# EAGLE library part SLIMSTACK-8 (library mullac)
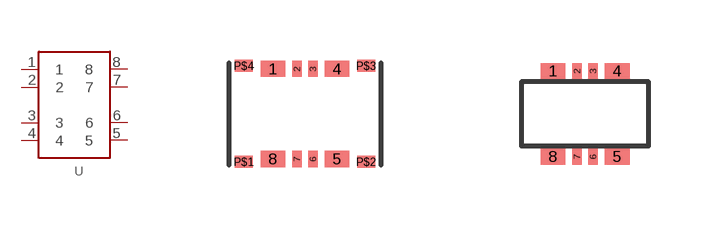
[diagram p9: symbol with the pads of MOLEX_SLIMSTACK_22_RCPT; footprints MOLEX_SLIMSTACK_22_RCPT, MOLEX_SLIMSTACK_22_PLUG]

Designator prefix -

## SLIMSTACK-8RECEPTICALE  [MOLEX_SLIMSTACK_22_RCPT]
1  1
2  2
3  3
4  4
5  5
6  6
7  7
8  8

## SLIMSTACK-8PLUG  [MOLEX_SLIMSTACK_22_PLUG]
1  8
2  7
3  6
4  5
5  4
6  3
7  2
8  1

## Footprint MOLEX_SLIMSTACK_22_RCPT (pad centres in mm)
smd 0.62 x 0.4: 1 -0.8,1.125; 4 0.8,1.125; 5 0.8,-1.125; 8 -0.8,-1.125
smd 0.24 x 0.4: 2 -0.2,1.125; 3 0.2,1.125; 6 0.2,-1.125; 7 -0.2,-1.125
smd 0.45 x 0.3: P$1 -1.53,-1.2; P$2 1.53,-1.2; P$3 1.53,1.2; P$4 -1.53,1.2

## Footprint MOLEX_SLIMSTACK_22_PLUG (pad centres in mm)
smd 0.62 x 0.4: 1 -0.8,1.07; 4 0.8,1.07; 5 0.8,-1.07; 8 -0.8,-1.07
smd 0.24 x 0.4: 2 -0.2,1.07; 3 0.2,1.07; 6 0.2,-1.07; 7 -0.2,-1.07